# EAGLE library part 929870-01-09_2 (library 3M_929852_Connector)
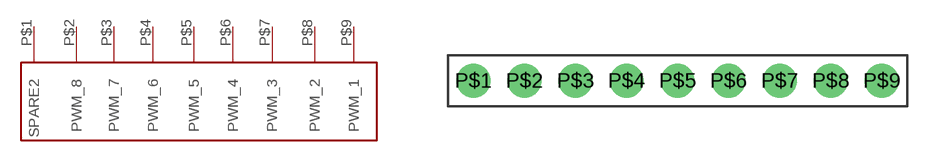
[diagram p1: symbol with the pads of 929852-01-09_1ROW; footprint 929852-01-09_1ROW]

Designator prefix -

## 929870-01-09_2  [929852-01-09_1ROW]
P$1  SPARE2
P$2  PWM_8
P$3  PWM_7
P$4  PWM_6
P$5  PWM_5
P$6  PWM_4
P$7  PWM_3
P$8  PWM_2
P$9  PWM_1

## Footprint 929852-01-09_1ROW (pad centres in mm)
drill 0.889 pad 1.676: P$1 1.27,1.27; P$2 3.81,1.27; P$3 6.35,1.27; P$4 8.89,1.27; P$5 11.43,1.27; P$6 13.97,1.27; P$7 16.51,1.27; P$8 19.05,1.27; P$9 21.59,1.27